# EAGLE library part LAN9514 (library mcp3424)
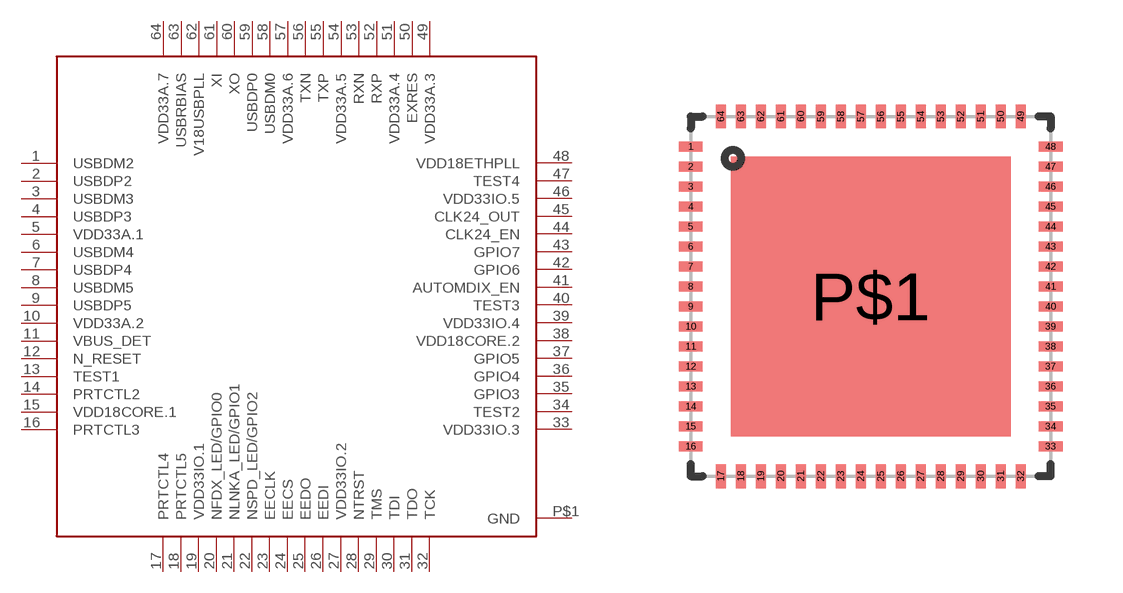
[diagram p11: symbol with the pads of QFN-64; footprint QFN-64]

Designator prefix -

## LAN9514  [QFN-64]
1  USBDM2
2  USBDP2
3  USBDM3
4  USBDP3
5  VDD33A.1
6  USBDM4
7  USBDP4
8  USBDM5
9  USBDP5
10  VDD33A.2
11  VBUS_DET
12  N_RESET
13  TEST1
14  PRTCTL2
15  VDD18CORE.1
16  PRTCTL3
17  PRTCTL4
18  PRTCTL5
19  VDD33IO.1
20  NFDX_LED/GPIO0
21  NLNKA_LED/GPIO1
22  NSPD_LED/GPIO2
23  EECLK
24  EECS
25  EEDO
26  EEDI
27  VDD33IO.2
28  NTRST
29  TMS
30  TDI
31  TDO
32  TCK
33  VDD33IO.3
34  TEST2
35  GPIO3
36  GPIO4
37  GPIO5
38  VDD18CORE.2
39  VDD33IO.4
40  TEST3
41  AUTOMDIX_EN
42  GPIO6
43  GPIO7
44  CLK24_EN
45  CLK24_OUT
46  VDD33IO.5
47  TEST4
48  VDD18ETHPLL
49  VDD33A.3
50  EXRES
51  VDD33A.4
52  RXP
53  RXN
54  VDD33A.5
55  TXP
56  TXN
57  VDD33A.6
58  USBDM0
59  USBDP0
60  XO
61  XI
62  V18USBPLL
63  USBRBIAS
64  VDD33A.7
P$1  GND

## Footprint QFN-64 (pad centres in mm)
QFN package with a 6x8 pin configuration.
smd 0.6 x 0.25: 1 -4.5,3.75; 2 -4.5,3.25; 3 -4.5,2.75; 4 -4.5,2.25; 5 -4.5,1.75; 6 -4.5,1.25; 7 -4.5,0.75; 8 -4.5,0.25; 9 -4.5,-0.25; 10 -4.5,-0.75; 11 -4.5,-1.25; 12 -4.5,-1.75; 13 -4.5,-2.25; 14 -4.5,-2.75; 15 -4.5,-3.25; 16 -4.5,-3.75; 33 4.5,-3.75; 34 4.5,-3.25; 35 4.5,-2.75; 36 4.5,-2.25; 37 4.5,-1.75; 38 4.5,-1.25; 39 4.5,-0.75; 40 4.5,-0.25; 41 4.5,0.25; 42 4.5,0.75; 43 4.5,1.25; 44 4.5,1.75; 45 4.5,2.25; 46 4.5,2.75; 47 4.5,3.25; 48 4.5,3.75
smd 0.25 x 0.6: 17 -3.75,-4.5; 18 -3.25,-4.5; 19 -2.75,-4.5; 20 -2.25,-4.5; 21 -1.75,-4.5; 22 -1.25,-4.5; 23 -0.75,-4.5; 24 -0.25,-4.5; 25 0.25,-4.5; 26 0.75,-4.5; 27 1.25,-4.5; 28 1.75,-4.5; 29 2.25,-4.5; 30 2.75,-4.5; 31 3.25,-4.5; 32 3.75,-4.5; 49 3.75,4.5; 50 3.25,4.5; 51 2.75,4.5; 52 2.25,4.5; 53 1.75,4.5; 54 1.25,4.5; 55 0.75,4.5; 56 0.25,4.5; 57 -0.25,4.5; 58 -0.75,4.5; 59 -1.25,4.5; 60 -1.75,4.5; 61 -2.25,4.5; 62 -2.75,4.5; 63 -3.25,4.5; 64 -3.75,4.5
smd 7 x 7: P$1 0,0